# EAGLE library part ADAFRUIT_TC9548A_BKOUT (library microbuilder)
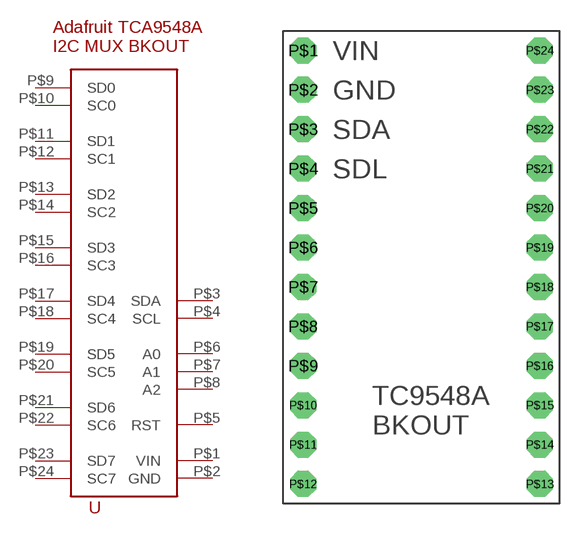
[diagram p134: symbol with the pads of ADAFRUIT_TC9548A_BKOUT; footprint ADAFRUIT_TC9548A_BKOUT]

Designator prefix -

## ADAFRUIT_TC9548A_BKOUT  [ADAFRUIT_TC9548A_BKOUT]
P$1  VIN
P$2  GND
P$3  SDA
P$4  SCL
P$5  RST
P$6  A0
P$7  A1
P$8  A2
P$9  SD0
P$10  SC0
P$11  SD1
P$12  SC1
P$13  SD2
P$14  SC2
P$15  SD3
P$16  SC3
P$17  SD4
P$18  SC4
P$19  SD5
P$20  SC5
P$21  SD6
P$22  SC6
P$23  SD7
P$24  SC7

## Footprint ADAFRUIT_TC9548A_BKOUT (pad centres in mm)
drill 1.016 pad 1.676 octagon: P$1 -7.62,13.97; P$2 -7.62,11.43; P$3 -7.62,8.89; P$4 -7.62,6.35; P$5 -7.62,3.81; P$6 -7.62,1.27; P$7 -7.62,-1.27; P$8 -7.62,-3.81; P$9 -7.62,-6.35; P$10 -7.62,-8.89; P$11 -7.62,-11.43; P$12 -7.62,-13.97; P$13 7.62,-13.97; P$14 7.62,-11.43; P$15 7.62,-8.89; P$16 7.62,-6.35; P$17 7.62,-3.81; P$18 7.62,-1.27; P$19 7.62,1.27; P$20 7.62,3.81; P$21 7.62,6.35; P$22 7.62,8.89; P$23 7.62,11.43; P$24 7.62,13.97